# Altium schematic symbol library AP63356.SchLib: 1 symbol
Pins are listed as number, name and electrical type; pins without a type are passive.

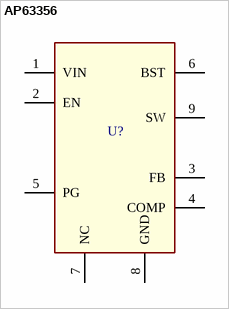
[diagram p0: symbol AP63356]

## AP63356
designator U?
3.8V TO 32VINPUT, 3.5A Low IQ Synchronous Buck with Enhanced EMI Reduction
footprint V-DFN3020-13
pins: 1 VIN, 2 EN, 3 FB, 4 COMP, 5 PG, 6 BST, 7 NC, 8 GND, 9 SW